# EAGLE library part WE-RJ45_7498111123 (library WE-RJ45_LAN)
WE-RJ45 LAN Through Hole Reflow Characteristics RJ45 designed to use for Pin-in-Paste soldering High mechanical stability through THT pins High Temperature LEDs Extra high standoff for a good thermal airflow Power over Ethernet up to 30 W Compliant with standard: IEEE 802.3u, IEEE 802.3ab, IEEE 802.3af, IEEE 802.3at Applications Suitable for industrial temperatures from –40 °C up to +85 °C Compatible to Industrial Ethernet systems like EtherCAT or Profinet Compliant with most IC’s for Ethernet applications such as Microchip, Texas Instruments, Broadcom, Linear Technology Hubs, Routers, Switches, IP cameras, IoT applications <https://www.we-online.com/components/media/o713596v209%20family-we-rj45-lan-74980xxx.jpg> Details see: www.we-online.com/components/products/WE-LAN-RJ45_THR <www.we-online.com/catalog/WE-LAN-RJ45_THR/?utm_source=eagle_model&utm_medium=description_link&utm_campaign=eisos_eagle> Created by Ella Wu 2022-12-16 2022 (C) Wurth Elektronik
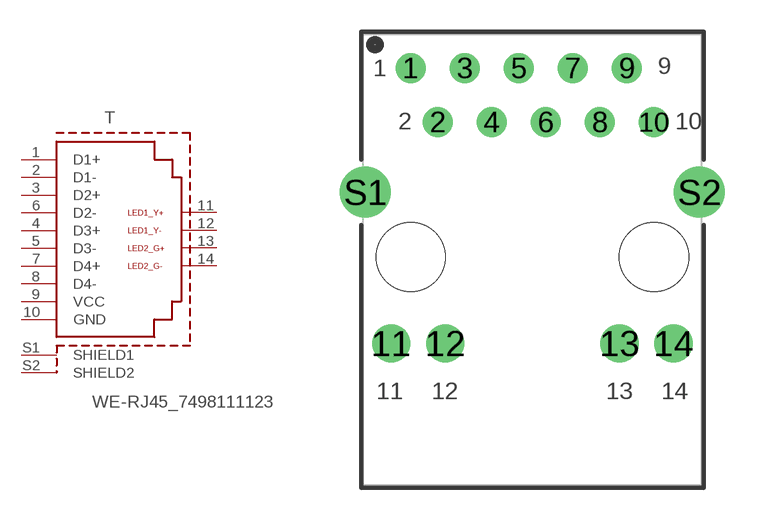
[diagram p67: symbol with the pads of 7498111123; footprint 7498111123]

Designator prefix T

## WE-RJ45_7498111123 (DATA-RATE: 1000BASE-T; DATASHEET-URL: https://www.we-online.com/redexpert/spec/7498111123?ae; IMPROVED-CMRR: No; LED: yellow-green; MOUNT: THR; OPERATING-TEMPERATURE: -40 °C up to +85 °C; PART-NUMBER: 7498111123; PHY-CHIP-MODE: current; POE: non-PoE; PORTS: 1; SHIELD-TABS: Yes; TAB: Down; USB: No; VALUE: 7498111123)  [7498111123]
1  D1+  pas
2  D1-  pas
3  D2+  pas
4  D3+  pas
5  D3-  pas
6  D2-  pas
7  D4+  pas
8  D4-  pas
9  VCC  pas
10  GND  pas
11  LED1_Y+  pas
12  LED1_Y-  pas
13  LED2_G+  pas
14  LED2_G-  pas
S1  SHIELD1  pas
S2  SHIELD2  pas

## Footprint 7498111123 (pad centres in mm)
WE-RJ45 LAN Through Hole Reflow
drill 0.9: 1 -5.715,8.89; 2 -4.445,6.35; 3 -3.175,8.89; 4 -1.905,6.35; 5 -0.635,8.89; 6 0.635,6.35; 7 1.905,8.89; 8 3.175,6.35; 9 4.445,8.89; 10 5.715,6.35
drill 1.2: 11 -6.64,-4.06; 12 -4.1,-4.06; 13 4.1,-4.06; 14 6.64,-4.06
drill 1.6: S1 -7.85,3.05; S2 7.85,3.05
hole 3.25 at -5.715,0
hole 3.25 at 5.715,0